# Altium footprint library FootPrintLib_4.PcbLib: 700 footprints (part 15 of 44)
Each footprint in its own frame and in the unit in brackets; x right, y up, seen from the top. Pads: shape width x height; smd on the part's side, far side on the other; paste and mask are expansions set on the pad; w line width, h text height; cw(c..) or ccw(c..) is an arc to the next point about the centre after c.
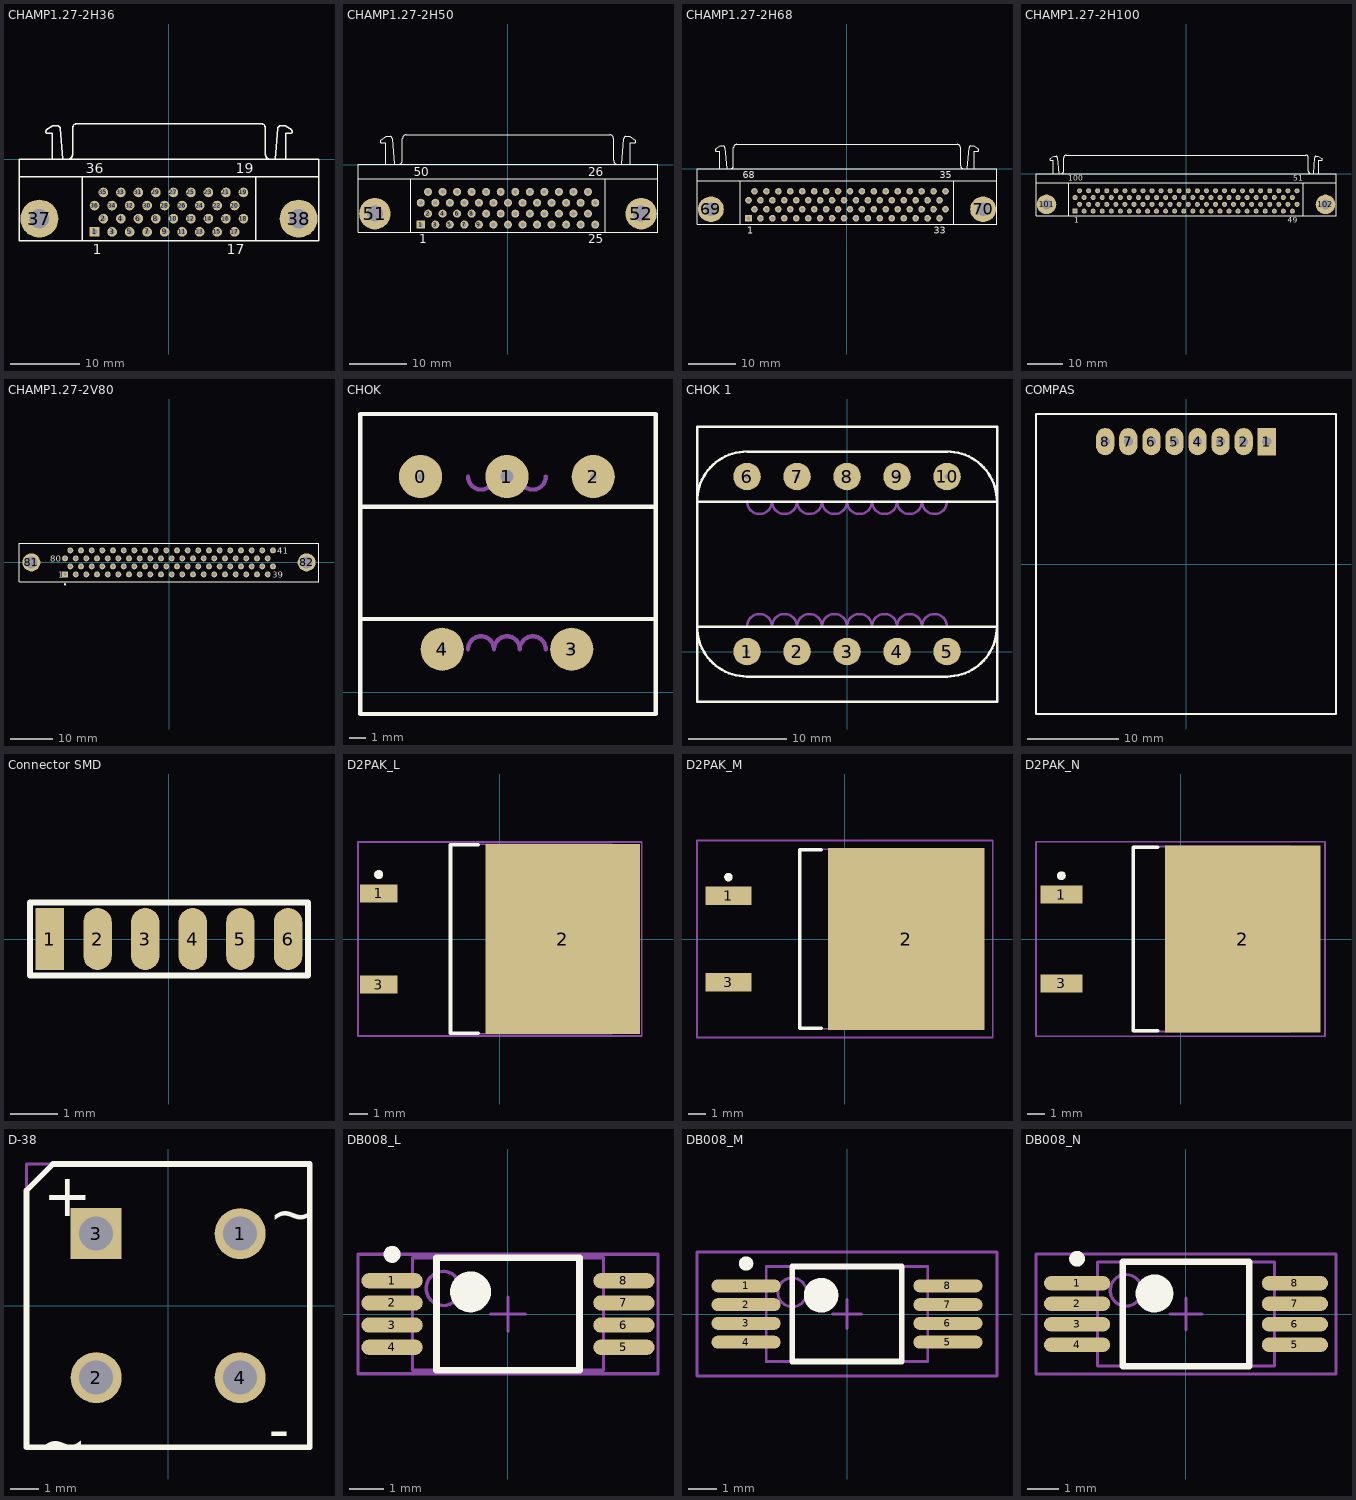
[diagram p14: the footprints below, top view; thin cyan lines are the x and y axes]

## CHAMP1.27-2H36 [mm] "Connector; 36 Position; Right Angle; Pitch 1.27 mm"
height 9.6
pads (38):
  rect 1.4x1.4 hole 0.8: 1(-10.795,-10.5)
  round 1.4 hole 0.8: 2(-9.525,-8.595) 3(-8.255,-10.5) 4(-6.985,-8.595) 5(-5.715,-10.5) 6(-4.445,-8.595) 7(-3.175,-10.5) 8(-1.905,-8.595) 9(-0.635,-10.5) 10(0.635,-8.595) 11(1.905,-10.5) 12(3.175,-8.595) 13(4.445,-10.5) 14(5.715,-8.595) 15(6.985,-10.5) 16(8.255,-8.595) 17(9.525,-10.5) 18(10.795,-8.595) 19(10.795,-4.785) 20(9.525,-6.69) 21(8.255,-4.785) 22(6.985,-6.69) 23(5.715,-4.785) 24(4.445,-6.69) 25(3.175,-4.785) 26(1.905,-6.69) 27(0.635,-4.785) 28(-0.635,-6.69) 29(-1.905,-4.785) 30(-3.175,-6.69) 31(-4.445,-4.785) 32(-5.715,-6.69) 33(-6.985,-4.785) 34(-8.255,-6.69) 35(-9.525,-4.785) 36(-10.795,-6.69)
  round 5.5 hole 2.8: 37(-18.805,-8.595) 38(18.805,-8.595)
Top Overlay:
  lines w0.2: -21.755,-2.5 21.755,-2.5 ; -17.77,4.27 -16.83,4.898 -16.108,4.898 cw(c-16.21,4.5) -15.8,4.5 ; -17.756,4.255 ccw(c-17.53,4.01) -17.78,3.79 -16.9,3.79 -16.9,0 ; -15.8,4.52 -15.43,0 ; -14.69,0.005 ccw(c-14.69,0.7) -13.995,0.7 -13.995,4.5 ; -13.99,4.505 cw(c-13.295,4.505) -13.295,5.2 13.295,5.2 cw(c13.295,4.505) 13.99,4.505 ; -12.555,-11.8 -12.555,-2.58 ; 12.555,-11.8 12.555,-2.5 ; 13.995,4.5 13.995,0.7 ccw(c14.69,0.7) 14.69,0.005 ; 15.43,0 15.8,4.52 ; 15.8,4.5 cw(c16.21,4.5) 16.108,4.898 16.83,4.898 17.77,4.27 ; 16.9,0 16.9,3.79 17.78,3.79 ccw(c17.53,4.01) 17.756,4.255 ; -21.755,-11.8 21.755,-11.8 21.755,0 -21.755,0 -21.755,-11.8
  text "19" at 9.67,-2.025 h1.5
  text "36" at -12.045,-2.025 h1.5
  text "17" at 8.4,-13.775 h1.5
  text "1" at -11.045,-13.775 h1.5

## CHAMP1.27-2H50 [mm] "Connector; 50 Position; Right Angle; Pitch 1.27 mm"
height 9.6
pads (52):
  rect 1.4x1.4 hole 0.8: 1(-15.24,-10.477)
  round 1.4 hole 0.8: 2(-13.97,-8.572) 3(-12.7,-10.477) 4(-11.43,-8.572) 5(-10.16,-10.477) 6(-8.89,-8.572) 7(-7.62,-10.477) 8(-6.35,-8.572) 9(-5.08,-10.477) 10(-3.81,-8.572) 11(-2.54,-10.477) 12(-1.27,-8.572) 13(0,-10.477) 14(1.27,-8.572) 15(2.54,-10.477) 16(3.81,-8.572) 17(5.08,-10.477) 18(6.35,-8.572) 19(7.62,-10.477) 20(8.89,-8.572) 21(10.16,-10.477) 22(11.43,-8.572) 23(12.7,-10.477) 24(13.97,-8.572) 25(15.24,-10.477) 26(15.24,-6.667) 27(13.97,-4.763) 28(12.7,-6.667) 29(11.43,-4.763) 30(10.16,-6.667) 31(8.89,-4.763) 32(7.62,-6.667) 33(6.35,-4.763) 34(5.08,-6.667) 35(3.81,-4.763) 36(2.54,-6.667) 37(1.27,-4.763) 38(0,-6.667) 39(-1.27,-4.763) 40(-2.54,-6.667) 41(-3.81,-4.763) 42(-5.08,-6.667) 43(-6.35,-4.763) 44(-7.62,-6.667) 45(-8.89,-4.763) 46(-10.16,-6.667) 47(-11.43,-4.763) 48(-12.7,-6.667) 49(-13.97,-4.763) 50(-15.24,-6.667)
  round 5.5 hole 2.8: 51(-23.25,-8.572) 52(23.25,-8.572)
Top Overlay:
  lines w0.2: -26.2,-2.478 26.2,-2.478 ; -22.215,4.292 -21.275,4.92 -20.553,4.92 cw(c-20.655,4.523) -20.245,4.523 ; -22.201,4.277 ccw(c-21.975,4.032) -22.225,3.812 -21.345,3.813 -21.345,0.022 ; -20.245,4.543 -19.875,0.022 ; -19.135,0.028 ccw(c-19.135,0.723) -18.44,0.723 -18.44,4.523 ; -18.435,4.527 cw(c-17.74,4.527) -17.74,5.222 17.74,5.222 cw(c17.74,4.527) 18.435,4.527 ; -17,-11.777 -17,-2.558 ; 17,-11.777 17,-2.478 ; 18.44,4.523 18.44,0.723 ccw(c19.135,0.723) 19.135,0.028 ; 19.875,0.022 20.245,4.543 ; 20.245,4.523 cw(c20.655,4.523) 20.553,4.92 21.275,4.92 22.215,4.292 ; 21.345,0.022 21.345,3.812 22.225,3.813 ccw(c21.975,4.032) 22.201,4.277 ; -26.2,-11.777 -26.2,0.022 26.2,0.022 26.2,-11.777 -26.2,-11.777
  text "1" at -15.49,-13.752 h1.5
  text "25" at 13.99,-13.752 h1.5
  text "50" at -16.49,-2.003 h1.5
  text "26" at 13.99,-2.003 h1.5

## CHAMP1.27-2H68 [mm] "Connector; 68 Position; Right Angle; Pitch 1.27 mm"
height 9.6
pads (70):
  rect 1.4x1.4 hole 0.8: 1(-20.955,-10.5)
  round 1.4 hole 0.8: 2(-19.685,-8.595) 3(-18.415,-10.5) 4(-17.145,-8.595) 5(-15.875,-10.5) 6(-14.605,-8.595) 7(-13.335,-10.5) 8(-12.065,-8.595) 9(-10.795,-10.5) 10(-9.525,-8.595) 11(-8.255,-10.5) 12(-6.985,-8.595) 13(-5.715,-10.5) 14(-4.445,-8.595) 15(-3.175,-10.5) 16(-1.905,-8.595) 17(-0.635,-10.5) 18(0.635,-8.595) 19(1.905,-10.5) 20(3.175,-8.595) 21(4.445,-10.5) 22(5.715,-8.595) 23(6.985,-10.5) 24(8.255,-8.595) 25(9.525,-10.5) 26(10.795,-8.595) 27(12.065,-10.5) 28(13.335,-8.595) 29(14.605,-10.5) 30(15.875,-8.595) 31(17.145,-10.5) 32(18.415,-8.595) 33(19.685,-10.5) 34(20.955,-8.595) 35(20.955,-4.785) 36(19.685,-6.69) 37(18.415,-4.785) 38(17.145,-6.69) 39(15.875,-4.785) 40(14.605,-6.69) 41(13.335,-4.785) 42(12.065,-6.69) 43(10.795,-4.785) 44(9.525,-6.69) 45(8.255,-4.785) 46(6.985,-6.69) 47(5.715,-4.785) 48(4.445,-6.69) 49(3.175,-4.785) 50(1.905,-6.69) 51(0.635,-4.785) 52(-0.635,-6.69) 53(-1.905,-4.785) 54(-3.175,-6.69) 55(-4.445,-4.785) 56(-5.715,-6.69) 57(-6.985,-4.785) 58(-8.255,-6.69) 59(-9.525,-4.785) 60(-10.795,-6.69) 61(-12.065,-4.785) 62(-13.335,-6.69) 63(-14.605,-4.785) 64(-15.875,-6.69) 65(-17.145,-4.785) 66(-18.415,-6.69) 67(-19.685,-4.785) 68(-20.955,-6.69)
  round 5.5 hole 2.8: 69(-28.965,-8.595) 70(28.965,-8.595)
Top Overlay:
  lines w0.2: -31.915,-2.5 31.915,-2.5 ; -27.93,4.27 -26.99,4.898 -26.268,4.898 cw(c-26.37,4.5) -25.96,4.5 ; -27.916,4.255 ccw(c-27.69,4.01) -27.94,3.79 -27.06,3.79 -27.06,0 ; -25.96,4.52 -25.59,0 ; -24.85,0.005 ccw(c-24.85,0.7) -24.155,0.7 -24.155,4.5 ; -24.15,4.505 cw(c-23.455,4.505) -23.455,5.2 23.455,5.2 cw(c23.455,4.505) 24.15,4.505 ; -22.715,-11.8 -22.715,-2.58 ; 22.715,-11.8 22.715,-2.5 ; 24.155,4.5 24.155,0.7 ccw(c24.85,0.7) 24.85,0.005 ; 25.59,0 25.96,4.52 ; 25.96,4.5 cw(c26.37,4.5) 26.268,4.898 26.99,4.898 27.93,4.27 ; 27.06,0 27.06,3.79 27.94,3.79 ccw(c27.69,4.01) 27.916,4.255 ; -31.915,-11.8 -31.915,0 31.915,0 31.915,-11.8 -31.915,-11.8
  text "35" at 19.705,-2.025 h1.5
  text "68" at -22.205,-2.025 h1.5
  text "33" at 18.435,-13.775 h1.5
  text "1" at -21.205,-13.775 h1.5

## CHAMP1.27-2H100 [mm] "Connector; 100 Position; Right Angle; Pitch 1.27 mm"
height 9.6
pads (102):
  rect 1.4x1.4 hole 0.8: 1(-31.115,-10.5)
  round 1.4 hole 0.8: 2(-29.845,-8.595) 3(-28.575,-10.5) 4(-27.305,-8.595) 5(-26.035,-10.5) 6(-24.765,-8.595) 7(-23.495,-10.5) 8(-22.225,-8.595) 9(-20.955,-10.5) 10(-19.685,-8.595) 11(-18.415,-10.5) 12(-17.145,-8.595) 13(-15.875,-10.5) 14(-14.605,-8.595) 15(-13.335,-10.5) 16(-12.065,-8.595) 17(-10.795,-10.5) 18(-9.525,-8.595) 19(-8.255,-10.5) 20(-6.985,-8.595) 21(-5.715,-10.5) 22(-4.445,-8.595) 23(-3.175,-10.5) 24(-1.905,-8.595) 25(-0.635,-10.5) 26(0.635,-8.595) 27(1.905,-10.5) 28(3.175,-8.595) 29(4.445,-10.5) 30(5.715,-8.595) 31(6.985,-10.5) 32(8.255,-8.595) 33(9.525,-10.5) 34(10.795,-8.595) 35(12.065,-10.5) 36(13.335,-8.595) 37(14.605,-10.5) 38(15.875,-8.595) 39(17.145,-10.5) 40(18.415,-8.595) 41(19.685,-10.5) 42(20.955,-8.595) 43(22.225,-10.5) 44(23.495,-8.595) 45(24.765,-10.5) 46(26.035,-8.595) 47(27.305,-10.5) 48(28.575,-8.595) 49(29.845,-10.5) 50(31.115,-8.595) 51(31.115,-4.785) 52(29.845,-6.69) 53(28.575,-4.785) 54(27.305,-6.69) 55(26.035,-4.785) 56(24.765,-6.69) 57(23.495,-4.785) 58(22.225,-6.69) 59(20.955,-4.785) 60(19.685,-6.69) 61(18.415,-4.785) 62(17.145,-6.69) 63(15.875,-4.785) 64(14.605,-6.69) 65(13.335,-4.785) 66(12.065,-6.69) 67(10.795,-4.785) 68(9.525,-6.69) 69(8.255,-4.785) 70(6.985,-6.69) 71(5.715,-4.785) 72(4.445,-6.69) 73(3.175,-4.785) 74(1.905,-6.69) 75(0.635,-4.785) 76(-0.635,-6.69) 77(-1.905,-4.785) 78(-3.175,-6.69) 79(-4.445,-4.785) 80(-5.715,-6.69) 81(-6.985,-4.785) 82(-8.255,-6.69) 83(-9.525,-4.785) 84(-10.795,-6.69) 85(-12.065,-4.785) 86(-13.335,-6.69) 87(-14.605,-4.785) 88(-15.875,-6.69) 89(-17.145,-4.785) 90(-18.415,-6.69) 91(-19.685,-4.785) 92(-20.955,-6.69) 93(-22.225,-4.785) 94(-23.495,-6.69) 95(-24.765,-4.785) 96(-26.035,-6.69) 97(-27.305,-4.785) 98(-28.575,-6.69) 99(-29.845,-4.785) 100(-31.115,-6.69)
  round 5.5 hole 2.8: 101(-39.125,-8.595) 102(39.125,-8.595)
Top Overlay:
  lines w0.2: -42.075,-2.5 42.075,-2.5 ; -38.09,4.27 -37.15,4.898 -36.428,4.898 cw(c-36.53,4.5) -36.12,4.5 ; -38.076,4.255 ccw(c-37.85,4.01) -38.1,3.79 -37.22,3.79 -37.22,0 ; -36.12,4.52 -35.75,0 ; -35.01,0.005 ccw(c-35.01,0.7) -34.315,0.7 -34.315,4.5 ; -34.31,4.505 cw(c-33.615,4.505) -33.615,5.2 33.615,5.2 ; -32.875,-11.8 -32.875,-2.58 ; 32.875,-11.8 32.875,-2.5 ; 33.63,5.2 cw(c33.63,4.505) 34.325,4.505 ; 34.33,4.5 34.33,0.7 ccw(c35.025,0.7) 35.025,0.005 ; 35.765,0 36.135,4.52 ; 36.135,4.5 cw(c36.545,4.5) 36.443,4.898 37.165,4.898 38.105,4.27 ; 37.235,0 37.235,3.79 38.115,3.79 ccw(c37.865,4.01) 38.091,4.255 ; -42.075,-11.8 42.075,-11.8 42.075,0 -42.075,0 -42.075,-11.8
  text "51" at 30.115,-2.025 h1.5
  text "100" at -32.99,-2.025 h1.5
  text "49" at 28.595,-13.775 h1.5
  text "1" at -31.365,-13.775 h1.5

## CHAMP1.27-2V80 [mm] "Connector; 80 Position; Vertical; Pitch 1.27 mm"
height 11.1
pads (82):
  rect 1.4x1.4 hole 0.8: 1(-24.765,-2.857)
  round 1.4 hole 0.8: 2(-23.495,-0.953) 3(-22.225,-2.857) 4(-20.955,-0.953) 5(-19.685,-2.857) 6(-18.415,-0.953) 7(-17.145,-2.857) 8(-15.875,-0.953) 9(-14.605,-2.857) 10(-13.335,-0.953) 11(-12.065,-2.857) 12(-10.795,-0.953) 13(-9.525,-2.857) 14(-8.255,-0.953) 15(-6.985,-2.857) 16(-5.715,-0.953) 17(-4.445,-2.857) 18(-3.175,-0.953) 19(-1.905,-2.857) 20(-0.635,-0.953) 21(0.635,-2.857) 22(1.905,-0.953) 23(3.175,-2.857) 24(4.445,-0.953) 25(5.715,-2.857) 26(6.985,-0.953) 27(8.255,-2.857) 28(9.525,-0.953) 29(10.795,-2.857) 30(12.065,-0.953) 31(13.335,-2.857) 32(14.605,-0.953) 33(15.875,-2.857) 34(17.145,-0.953) 35(18.415,-2.857) 36(19.685,-0.953) 37(20.955,-2.857) 38(22.225,-0.953) 39(23.495,-2.857) 40(24.765,-0.953) 41(24.765,2.857) 42(23.495,0.953) 43(22.225,2.857) 44(20.955,0.953) 45(19.685,2.857) 46(18.415,0.953) 47(17.145,2.857) 48(15.875,0.953) 49(14.605,2.857) 50(13.335,0.953) 51(12.065,2.857) 52(10.795,0.953) 53(9.525,2.857) 54(8.255,0.953) 55(6.985,2.857) 56(5.715,0.953) 57(4.445,2.857) 58(3.175,0.953) 59(1.905,2.857) 60(0.635,0.953) 61(-0.635,2.857) 62(-1.905,0.953) 63(-3.175,2.857) 64(-4.445,0.953) 65(-5.715,2.857) 66(-6.985,0.953) 67(-8.255,2.857) 68(-9.525,0.953) 69(-10.795,2.857) 70(-12.065,0.953) 71(-13.335,2.857) 72(-14.605,0.953) 73(-15.875,2.857) 74(-17.145,0.953) 75(-18.415,2.857) 76(-19.685,0.953) 77(-20.955,2.857) 78(-22.225,0.953) 79(-23.495,2.857) 80(-24.765,0.953)
  round 4.3 hole 2.8: 81(-32.775,0) 82(32.775,0)
Top Overlay:
  circle w0.25: c-24.765,-5.25 r0.125
  lines w0.2: -35.725,-4.6 35.725,-4.6 35.725,4.6 -35.725,4.6 -35.725,-4.6
  text "41" at 25.84,2.107 h1.5
  text "80" at -28.34,0.202 h1.5
  text "39" at 24.57,-3.608 h1.5
  text "1" at -26.34,-3.608 h1.5

## CHOK [mil]
pads (5):
  round 100 hole 15: 0(200,500) 2(600,500) 3(550,100) 4(250,100)
  round 100 hole 30: 1(400,500)
Top Overlay:
  lines w10: 60,170 745,170 ; 60,430 745,430 ; 60,-50 745,-50 745,645 60,645 60,-50
Mechanical 13:
  lines w10: 310,100 cw(c340,100) 370,100 cw(c400,100) 430,100 cw(c460,100) 490,100 ; 310,500 ccw(c340,500) 370,500 ccw(c400,500) 430,500 ccw(c460,500) 490,500

## CHOK 1 [mil]
pads (10):
  round 110 hole 20: 1(-400,0) 2(-200,0) 3(0,0) 4(200,0) 5(400,0) 6(-400,700) 7(-200,700) 8(0,700) 9(200,700) 10(400,700)
Top Overlay:
  lines w10: -600,-200 -600,900 600,900 600,-200 -600,-200 ; -600,100 ccw(c-400,100) -400,-100 400,-100 ccw(c400,100) 600,100 -600,100 ; -600,600 cw(c-400,600) -400,800 400,800 cw(c400,600) 600,600 -600,600
Mechanical 13:
  lines w10: -400,100 cw(c-350,100) -300,100 cw(c-250,100) -200,100 cw(c-150,100) -100,100 cw(c-50,100) 0,100 cw(c50,100) 100,100 cw(c150,100) 200,100 cw(c250,100) 300,100 cw(c350,100) 400,100 ; -400,600 ccw(c-350,600) -300,600 ccw(c-250,600) -200,600 ccw(c-150,600) -100,600 ccw(c-50,600) 0,600 ccw(c50,600) 100,600 ccw(c150,600) 200,600 ccw(c250,600) 300,600 ccw(c350,600) 400,600

## COMPAS [mm]
pads (8):
  rect 2x3 hole 1: 1(8.89,13.462)
  oval 2x3 hole 1: 2(6.35,13.462) 3(3.81,13.462) 4(1.27,13.462) 5(-1.27,13.462) 6(-3.81,13.462) 7(-6.35,13.462) 8(-8.89,13.462)
Top Overlay:
  lines w0.254: -16.51,-16.51 -16.51,16.51 16.51,16.51 16.51,-16.51 -16.51,-16.51

## Connector SMD [mm]
pads (6):
  rect 0.6x1.3 smd: 1(-2.5,0)
  oval 0.6x1.3 smd: 2(-1.5,0) 3(-0.5,0) 4(0.5,0) 5(1.5,0) 6(2.5,0)
Top Overlay:
  lines w0.127: -2.921,-0.762 2.921,-0.762 2.921,0.762 -2.921,0.762 -2.921,-0.762

## D2PAK_L [mm] "D2-PAK, 4-Leads, Body 8.8x10.4mm, Pitch 2.54mm, Lead Span 15.1mm, IPC High Density"
height 4.69
pads (3):
  rect 2.1x1 smd: 1(-6.75,2.54) 3(-6.75,-2.54)
  rect 8.6x10.6 smd: 2(3.5,0)
Top Overlay:
  circle w0.25: c-6.75,3.59 r0.125
  lines w0.2: -1.2,-5.25 -2.75,-5.25 -2.75,5.25 -1.2,5.25
Mechanical 13:
  lines w0.1: -2.75,-5.275 6.25,-5.275 6.25,5.275 -2.75,5.275 -2.75,-5.275
Mechanical 15:
  lines w0.1: -0.5,0 0.5,0 ; 0,-0.5 0,0.5 ; -7.9,-5.4 7.9,-5.4 7.9,5.4 -7.9,5.4 -7.9,-5.4
3D body: height 4.69, standoff 0, extent -2.75,-5.275 6.25,5.275

## D2PAK_M [mm] "D2-PAK, 4-Leads, Body 8.8x10.4mm, Pitch 2.54mm, Lead Span 15.1mm, IPC Low Density"
height 4.69
pads (3):
  rect 2.7x1.1 smd: 1(-6.85,2.54) 3(-6.85,-2.54)
  rect 9.2x10.7 smd: 2(3.6,0)
Top Overlay:
  circle w0.25: c-6.85,3.64 r0.125
  lines w0.2: -1.4,-5.25 -2.65,-5.25 -2.65,5.25 -1.4,5.25
Mechanical 13:
  lines w0.1: -2.65,-5.275 6.35,-5.275 6.35,5.275 -2.65,5.275 -2.65,-5.275
Mechanical 15:
  lines w0.1: -0.5,0 0.5,0 ; 0,-0.5 0,0.5 ; -8.7,-5.8 8.7,-5.8 8.7,5.8 -8.7,5.8 -8.7,-5.8
3D body: height 4.69, standoff 0, extent -2.65,-5.275 6.35,5.275

## D2PAK_N [mm] "D2-PAK, 4-Leads, Body 8.8x10.4mm, Pitch 2.54mm, Lead Span 15.1mm, IPC Medium Density"
height 4.69
pads (3):
  rect 2.4x1.05 smd: 1(-6.8,2.54) 3(-6.8,-2.54)
  rect 8.9x10.65 smd: 2(3.55,0)
Top Overlay:
  circle w0.25: c-6.8,3.615 r0.125
  lines w0.2: -1.3,-5.25 -2.7,-5.25 -2.7,5.25 -1.3,5.25
Mechanical 13:
  lines w0.1: -2.7,-5.275 6.3,-5.275 6.3,5.275 -2.7,5.275 -2.7,-5.275
Mechanical 15:
  lines w0.1: -0.5,0 0.5,0 ; 0,-0.5 0,0.5 ; -8.25,-5.55 8.25,-5.55 8.25,5.55 -8.25,5.55 -8.25,-5.55
3D body: height 4.69, standoff 0, extent -2.7,-5.275 6.3,5.275

## D-38 [mm] "Bridge Rectifier; 4 Terminals; Body 9.4 x 9.4 mm (typ); Pitch 5.08 mm"
height 9.91
pads (4):
  round 1.8 hole 1.2: 1(2.54,2.54) 2(-2.54,-2.54) 4(2.54,-2.54)
  rect 1.8x1.8 hole 1.2: 3(-2.54,2.54)
Top Overlay:
  lines w0.2: -5,-5 5,-5 5,5 -4.064,5 -5,4.064 -5,-5
  text "~" at 3.556,2.54 h1.5
  text "~" at -4.572,-5.588 h1.5
  text "-" at 3.556,-5.08 h1.5
  text "+" at -4.41,3.164 h1.5
Mechanical 13:
  lines w0.1: -5,-5 5,-5 5,5 -5,5 -5,-5
3D body: height 9.91, standoff 0, extent -5,-5 5,5

## DB008_L [mm] "SOP, 8-Leads, Body 3x5.3mm, Pitch 0.65mm, IPC High Density"
height 2
pads (8):
  oval 1.8x0.45 smd: 1(-3.4,0.975) 2(-3.4,0.325) 3(-3.4,-0.325) 4(-3.4,-0.975) 5(3.4,-0.975) 6(3.4,-0.325) 7(3.4,0.325) 8(3.4,0.975)
Top Overlay:
  circle w0.25: c-3.4,1.75 r0.125
  circle w0.6: c-1.1,0.65 r0.3
  lines w0.2: -2.1,-1.65 -2.1,1.65 2.1,1.65 2.1,-1.65 -2.1,-1.65
Mechanical 13:
  circle w0.1: c-1.9,0.75 r0.5
  lines w0.1: -2.8,-1.65 -2.8,1.65 2.8,1.65 2.8,-1.65 -2.8,-1.65
Mechanical 15:
  lines w0.1: -0.5,0 0.5,0 ; 0,-0.5 0,0.5 ; -4.4,-1.75 -4.4,1.75 4.4,1.75 4.4,-1.75 -4.4,-1.75
3D body: height 2, standoff 0, extent -2.8,-1.65 2.8,1.65

## DB008_M [mm] "SOP, 8-Leads, Body 3x5.3mm, Pitch 0.65mm, IPC Low Density"
height 2
pads (8):
  oval 2.4x0.45 smd: 1(-3.5,0.975) 2(-3.5,0.325) 3(-3.5,-0.325) 4(-3.5,-0.975) 5(3.5,-0.975) 6(3.5,-0.325) 7(3.5,0.325) 8(3.5,0.975)
Top Overlay:
  circle w0.25: c-3.5,1.75 r0.125
  circle w0.6: c-0.9,0.65 r0.3
  lines w0.2: -1.9,-1.65 -1.9,1.65 1.9,1.65 1.9,-1.65 -1.9,-1.65
Mechanical 13:
  circle w0.1: c-1.9,0.75 r0.5
  lines w0.1: -2.8,-1.65 -2.8,1.65 2.8,1.65 2.8,-1.65 -2.8,-1.65
Mechanical 15:
  lines w0.1: -0.5,0 0.5,0 ; 0,-0.5 0,0.5 ; -5.2,-2.15 -5.2,2.15 5.2,2.15 5.2,-2.15 -5.2,-2.15
3D body: height 2, standoff 0, extent -2.8,-1.65 2.8,1.65

## DB008_N [mm] "SOP, 8-Leads, Body 3x5.3mm, Pitch 0.65mm, IPC Medium Density"
height 2
pads (8):
  oval 2.1x0.45 smd: 1(-3.45,0.975) 2(-3.45,0.325) 3(-3.45,-0.325) 4(-3.45,-0.975) 5(3.45,-0.975) 6(3.45,-0.325) 7(3.45,0.325) 8(3.45,0.975)
Top Overlay:
  circle w0.25: c-3.45,1.75 r0.125
  circle w0.6: c-1,0.65 r0.3
  lines w0.2: -2,-1.65 -2,1.65 2,1.65 2,-1.65 -2,-1.65
Mechanical 13:
  circle w0.1: c-1.9,0.75 r0.5
  lines w0.1: -2.8,-1.65 -2.8,1.65 2.8,1.65 2.8,-1.65 -2.8,-1.65
Mechanical 15:
  lines w0.1: -0.5,0 0.5,0 ; 0,-0.5 0,0.5 ; -4.75,-1.9 -4.75,1.9 4.75,1.9 4.75,-1.9 -4.75,-1.9
3D body: height 2, standoff 0, extent -2.8,-1.65 2.8,1.65